# Altium schematic symbol library LT3060HTS8TRMPBF.SchLib: 1 symbol
Pins are listed as number, name and electrical type; pins without a type are passive.

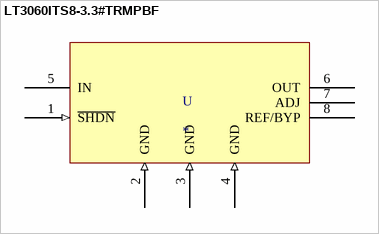
[diagram p0: symbol LT3060ITS8-3.3#TRMPBF]

## LT3060ITS8-3.3#TRMPBF
designator U
LDO Regulator Pos 0.6V to 44.5V 0.1A Automotive 8-Pin TSOT-23 T/R; MP: LT3060HTS8#TRMPBF; MF: Analog Devices; Arrow_Electronics-Purchase-URL: https://snapeda.com/shop?store=Arrow+Electronics&id=4333210; Value: *; SnapEDA_Link: https://www.snapeda.com/parts/LT3060HTS8%23TRMPBF/Analog%20Devices/view-part/4333210/?ref=snap; Mouser-Purchase-URL: https://snapeda.com/shop?store=Mouser&id=4333210; Price: None; DigiKey-Purchase-URL: https://snapeda.com/shop?store=DigiKey&id=4333210; Package: SOT-23-8 Analog Devices; Availability: Unavailable
footprint TSOT-23_TS8
pins: 1 ~{SHDN} (in), 2 GND (in), 3 GND (in), 4 GND (in), 5 IN (power), 6 OUT (power), 7 ADJ (power), 8 REF/BYP (power)